# Altium schematic symbol library RK73H2ATTD2804F.SchLib: 1 symbol
Pins are listed as number, name and electrical type; pins without a type are passive.

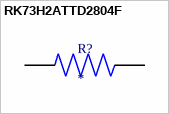
[diagram p0: symbol RK73H2ATTD2804F]

## RK73H2ATTD2804F
designator R?
MP: RK73H2ATTD2804F; Package: None; Price: None; Value: *; Availability: Unavailable
footprint RESC2012X60N
pins: 1, 2